# Altium schematic symbol library ERA3AEB393V.SchLib: 1 symbol
Pins are listed as number, name and electrical type; pins without a type are passive.

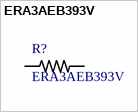
[diagram p0: symbol ERA3AEB393V]

## ERA3AEB393V
designator R?
Res Thin Film 0603 39K Ohm 0.1% 1/10W 卤25ppm/掳C Molded SMD SMD Punched Carrier T/R; MF: Panasonic; MP: ERA3AEB393V; Package: 0603 Panasonic; Price: 0.08 USD; Availability: Good; Value: *
footprint RESC1608X55
pins: 1, 2